# Altium footprint library TSSOP-14.PcbLib: 1 footprints
Each footprint in its own frame and in the unit in brackets; x right, y up, seen from the top. Pads: shape width x height; smd on the part's side, far side on the other; paste and mask are expansions set on the pad; w line width, h text height; cw(c..) or ccw(c..) is an arc to the next point about the centre after c.
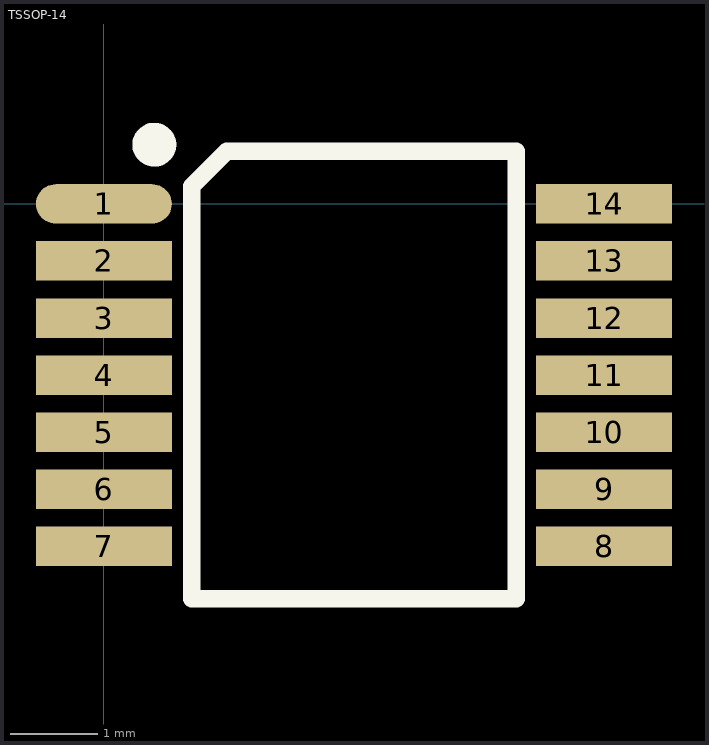
[diagram p0: the footprint, top view; thin cyan lines are the x and y axes]

## TSSOP-14 [mm] "TSSOP 14-pin 5.1x4.5mm"
height 1.2
pads (14):
  oval 1.55x0.45 smd: 1(0,0)
  rect 1.55x0.45 smd: 2(0,-0.65) 3(0,-1.3) 4(0,-1.95) 5(0,-2.6) 6(0,-3.25) 7(0,-3.9) 8(5.7,-3.9) 9(5.7,-3.25) 10(5.7,-2.6) 11(5.7,-1.95) 12(5.7,-1.3) 13(5.7,-0.65) 14(5.7,0)
Top Overlay:
  circle w0.25: c0.575,0.675 r0.125
  lines w0.2: 1,-4.5 4.7,-4.5 4.7,0.6 1.4,0.6 1,0.2 1,-4.5
3D body "TSSOP-14.step": height 1.2, standoff 0, extent -0.35,-4.5 6.05,0.6